# Altium schematic symbol library composants actifs.SchLib: 50 symbols
Pins are listed as number, name and electrical type; pins without a type are passive.

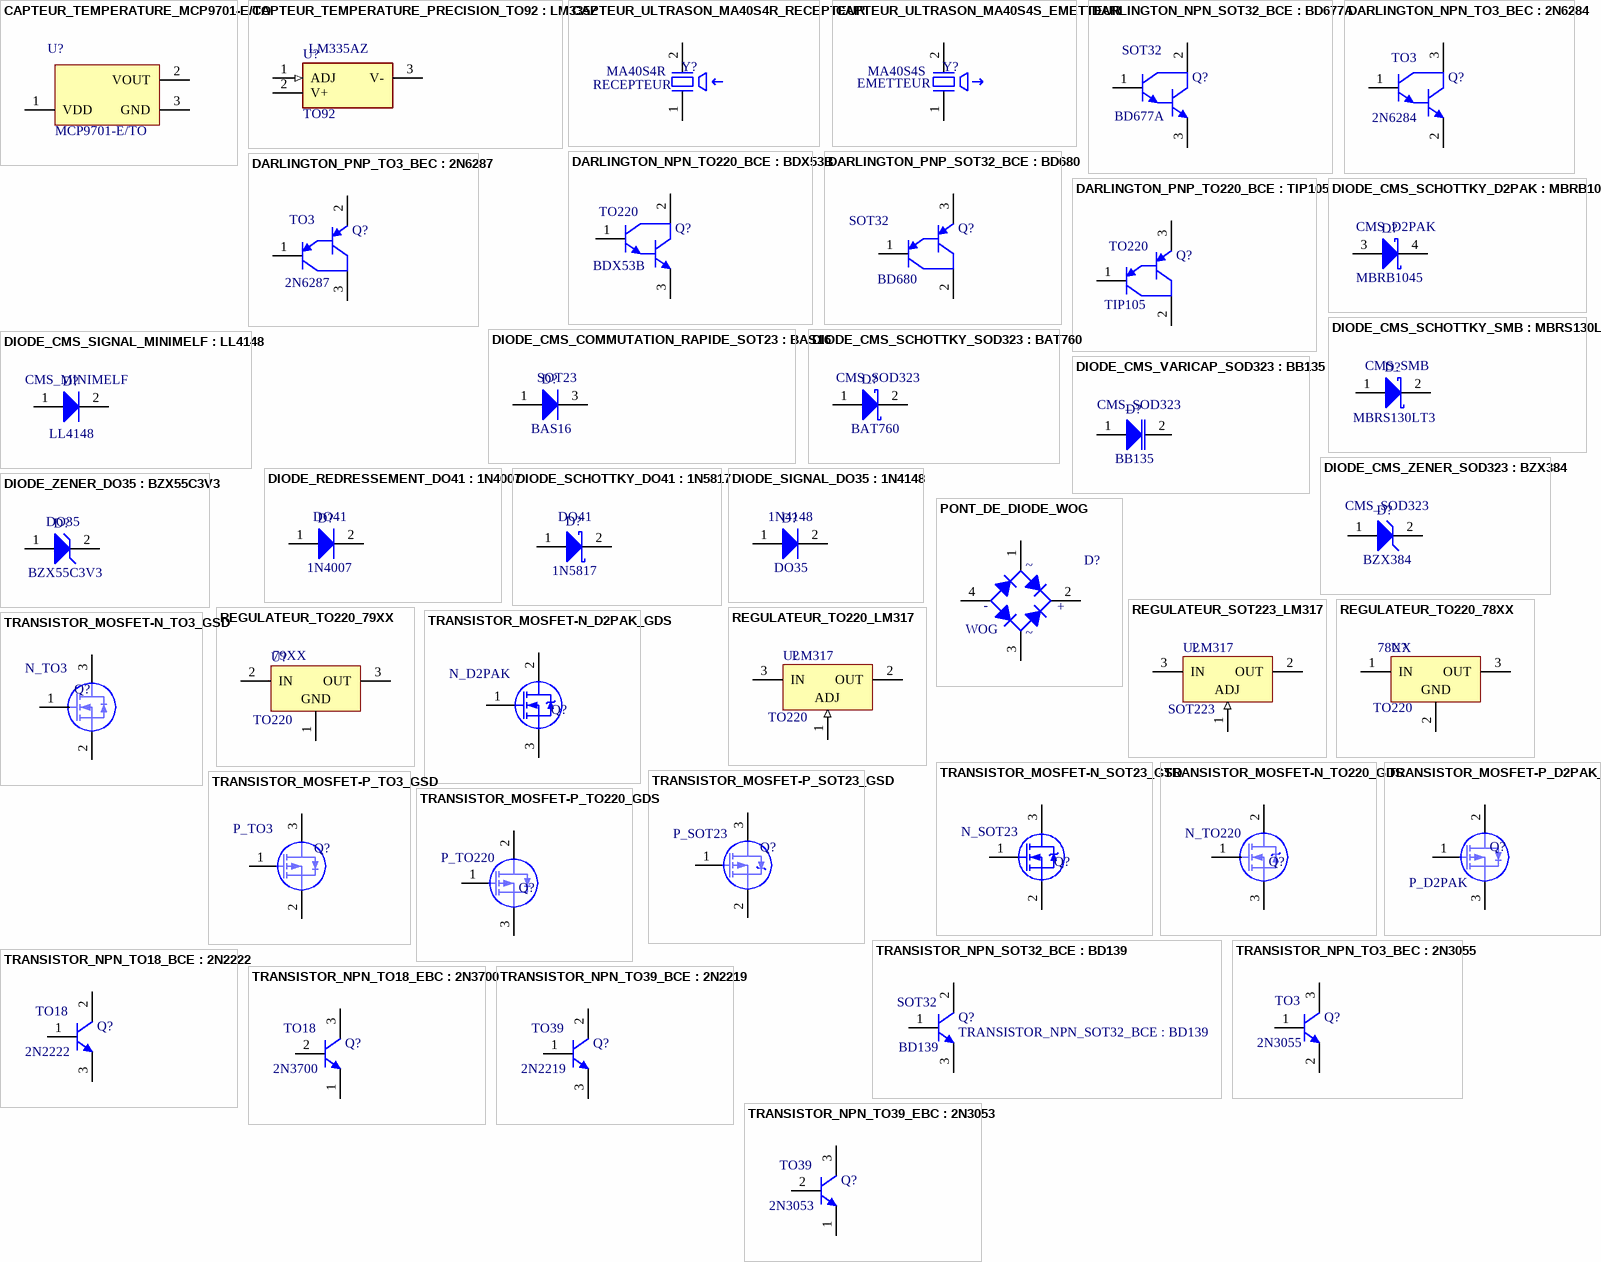
[diagram p0: symbols CAPTEUR_TEMPERATURE_MCP9701-E/TO to TRANSISTOR_NPN_TO39_EBC : 2N3053]

## CAPTEUR_TEMPERATURE_MCP9701-E/TO
designator U?  Type: MCP9701-E/TO
CAPTEUR DE TEMPERATURE ANALOGIQUE LINEAIRE - TO92
footprint COMPOSANT_TO92 (BOITIER TO92 ; 3 BROCHES EN LIGNE; DIAMETRE CORPS : 4.5mm ; BROCHES : 0.51mm x 0.48mm)
pins: 1 VDD (power), 2 VOUT (power), 3 GND (power)

## CAPTEUR_TEMPERATURE_PRECISION_TO92 : LM335Z
designator U?  Type: LM335AZ  Package: TO92  (hidden comment: CAPTEUR_TEMPERATURE_PRECISION_TO92 : LM335Z)
CAPTEUR DE TEMPERATURE DE PRECISION - TO92
footprint COMPOSANT_TO92 (BOITIER TO92 ; 3 BROCHES EN LIGNE; DIAMETRE CORPS : 4.5mm ; BROCHES : 0.51mm x 0.48mm)
pins: 1 ADJ (in), 2 V+ (power), 3 V- (power)

## CAPTEUR_ULTRASON_MA40S4R_RECEPTEUR
designator Y?, comment value RECEPTEUR  Type: MA40S4R  (hidden comment: CAPTEUR_ULTRASON_MA40S4R_REEPTEUR)
CAPTEUR ULTRASON MA40S4R_RECEPTEUR
simulation model XTAL (Spice Subcircuit)
footprint CAPTEUR_ULTRASON_MA40S4 (CAPTEUR ; DIAMETRE : 10mm ; ESPACEMENTS BROCHES : 5mm)
pins: 1 OSC1, 2 OSC2

## CAPTEUR_ULTRASON_MA40S4S_EMETTEUR
designator Y?  value EMETTEUR  Type: MA40S4S  (hidden comment: CAPTEUR_ULTRASON_MA40S4S_EMETTEUR)
CAPTEUR ULTRASON MA40S4S_EMETTEUR
simulation model XTAL (Spice Subcircuit)
footprint CAPTEUR_ULTRASON_MA40S4 (CAPTEUR ; DIAMETRE : 10mm ; ESPACEMENTS BROCHES : 5mm)
pins: 1 OSC1, 2 OSC2

## DARLINGTON_NPN_SOT32_BCE : BD677A
designator Q?  Package: SOT32  Name: BD677A  (hidden comment: DARLINGTON_NPN_SOT32_BCE : BD677A)
DARLINGTON NPN SOT32_BCE : BD677A
simulation model NPN1 (Spice Subcircuit)
signal-integrity model NPN
footprint TRANSISTOR_BIPOL_SOT32_BCE (BOITIER SOT32 ; DIMENSIONS : 10.7mm x 7.6mm x 2.6mm ; ESPACEMENT BROCHES : 2.2mm)
pins: 1 B, 2 C, 3 E

## DARLINGTON_NPN_TO3_BEC : 2N6284
designator Q?  Package: TO3  Type: 2N6284  (hidden comment: DARLINGTON_NPN_TO3_BEC : 2N6284)
DARLINGTON NPN TO3_BEC : 2N6284
simulation model NPN1 (Spice Subcircuit)
signal-integrity model NPN
footprint TRANSISTOR_BIPOL_TO3_BEC (TRANSISTOR TO3 ; DIMENSIONS : 26.7mm x 38.3mm ; ESPACEMENT BROCHES : 10.92mm)
pins: 1 B, 2 E, 3 C

## DARLINGTON_NPN_TO220_BCE : BDX53B
designator Q?  Package: TO220  Type: BDX53B  (hidden comment: DARLINGTON_NPN_TO220_BCE : BDX53B)
DARLINGTON NPN TO220_BCE : BDX53B
simulation model NPN1 (Spice Subcircuit)
signal-integrity model NPN
footprint TRANSISTOR_BIPOL_TO220_BCE (BOITIER TO220 ; DIMENSIONS : 11.2mm x 4.7mm ; ESPACEMENT BROCHES : 2.54 mm)
pins: 1 B, 2 C, 3 E

## DARLINGTON_PNP_SOT32_BCE : BD680
designator Q?  Package: SOT32  Type: BD680  (hidden comment: DARLINGTON_PNP_SOT32_BCE : BD680)
DARLINGTON PNP SOT32_BCE : BD680
simulation model PNP1 (Spice Subcircuit)
signal-integrity model PNP
footprint TRANSISTOR_BIPOL_SOT32_BCE (BOITIER SOT32 ; DIMENSIONS : 10.7mm x 7.6mm x 2.6mm ; ESPACEMENT BROCHES : 2.2mm)
pins: 1 B, 2 C, 3 E

## DARLINGTON_PNP_TO3_BEC : 2N6287
designator Q?  Package: TO3  Type: 2N6287  (hidden comment: DARLINGTON_PNP_TO3_BEC : 2N6287)
DARLINGTON PNP TO3_BEC : 2N6287
simulation model PNP1 (Spice Subcircuit)
signal-integrity model PNP
footprint TRANSISTOR_BIPOL_TO3_BEC (TRANSISTOR TO3 ; DIMENSIONS : 26.7mm x 38.3mm ; ESPACEMENT BROCHES : 10.92mm)
pins: 1 B, 2 E, 3 C

## DARLINGTON_PNP_TO220_BCE : TIP105
designator Q?  Package: TO220  Type: TIP105  (hidden comment: DARLINGTON_PNP_TO220_BCE : TIP105)
DARLINGTON PNP TO220_BCE : TIP105
simulation model PNP1 (Spice Subcircuit)
signal-integrity model PNP
footprint TRANSISTOR_BIPOL_TO220_BCE (BOITIER TO220 ; DIMENSIONS : 11.2mm x 4.7mm ; ESPACEMENT BROCHES : 2.54 mm)
pins: 1 B, 2 C, 3 E

## DIODE_CMS_COMMUTATION_RAPIDE_SOT23 : BAS16
designator D?  Type: BAS16  Package: SOT23  (hidden comment: DIODE_CMS_COMMUTATION_RAPIDE_SOT23 : BAS16)
DIODE CMS COMMUTATION RADIDE SOT23 : BAS16
simulation model DIODE (Diode)
signal-integrity model Diode
footprint DIODE_SOT23 (SOT23 ; DIMENSIONS : 3.0mm x 2.5 mm)
pins: 1, 3

## DIODE_CMS_SCHOTTKY_D2PAK : MBRB1045
designator D?  Package: CMS_D2PAK  Type: MBRB1045  (hidden comment: DIODE_CMS_SCHOTTKY_D2PAK : MBRB1045)
DIODE CMS SCHOTTKY D2PAK : MBRB1045
simulation model SKYDIODE (Diode)
signal-integrity model D Schottky
footprint DIODE_CMS_D2PAK (DIODE CMS D2PAK ; DIMENSIONS : 15.5mm x 10.5 mm)
pins: 3, 4

## DIODE_CMS_SCHOTTKY_SMB : MBRS130LT3
designator D?  Package: CMS_SMB  Type: MBRS130LT3  (hidden comment: DIODE_CMS_SCHOTTKY_SMB : MBRS130LT3)
DIODE CMS SCHOTTKY SMB : MBRS130LT3
simulation model SKYDIODE (Diode)
signal-integrity model D Schottky
footprint DIODE_CMS_SMB (DIODE CMS SMB ; DIMENSIONS : 5.4mm x 3.6mm ; ESPACEMENT BROCHES : 4.15mm)
pins: 1, 2

## DIODE_CMS_SCHOTTKY_SOD323 : BAT760
designator D?  Package: CMS_SOD323  Type: BAT760  (hidden comment: DIODE_CMS_SCHOTTKY_SOD323 : BAT760)
DIODE CMS SCHOTTKY SOD-323 : BAT760
simulation model SKYDIODE (Diode)
signal-integrity model D Schottky
footprint DIODE_CMS_SOD323 (DIODE CMS SOD323 ; DIMENSIONS : 1.7mm x 1.3mm)
pins: 1, 2

## DIODE_CMS_SIGNAL_MINIMELF : LL4148
designator D?  Package: CMS_MINIMELF  Type: LL4148  (hidden comment: DIODE_CMS_SIGNAL_MINIMELF : LL4148)
DIODE CMS DE SIGNAL MINIMELF : LL4148
simulation model DIODE (Diode)
signal-integrity model Diode
footprint DIODE_CMS_MINIMELF (DIODE CMS MINIMELF; DIMENSIONS : 3.5mm x 1.45mm)
pins: 1, 2

## DIODE_CMS_VARICAP_SOD323 : BB135
designator D?  Package: CMS_SOD323  Type: BB135  (hidden comment: DIODE_CMS_VARICAP_SOD323 : BB135)
DIODE CMS VARICAP SOD323 : BB135
simulation model BBY31 (Diode)
signal-integrity model D Varactor
footprint DIODE_CMS_SOD323 (DIODE CMS SOD323 ; DIMENSIONS : 1.7mm x 1.3mm)
pins: 1, 2

## DIODE_CMS_ZENER_SOD323 : BZX384
designator D?  Package: CMS_SOD323  Type: BZX384  (hidden comment: DIODE_CMS_ZENER_SOD323 : BZX384)
simulation model ZENER (Diode)
signal-integrity model D Zener
footprint DIODE_CMS_SOD323 (DIODE CMS SOD323 ; DIMENSIONS : 1.7mm x 1.3mm)
pins: 1, 2

## DIODE_REDRESSEMENT_DO41 : 1N4007
designator D?  Type: 1N4007  Package: DO41  (hidden comment: DIODE_REDRESSEMENT_DO41 : 1N4007)
DIODE DE REDRESSEMENT DO41 : 1N4007
simulation model DIODE (Diode)
signal-integrity model Diode
footprint DIODE_DO41 (DIODE DO41 ; DIMENSIONS : 5.2mm x 2.7mm ; PERCAGE : 0.8mm)
pins: 1, 2

## DIODE_SCHOTTKY_DO41 : 1N5817
designator D?  Type: 1N5817  Package: DO41  (hidden comment: DIODE_SCHOTTKY_DO41 : 1N5817)
DIODE SCHOTTKY DO41 : 1N5817
simulation model SKYDIODE (Diode)
signal-integrity model D Schottky
footprint DIODE_DO41 (DIODE DO41 ; DIMENSIONS : 5.2mm x 2.7mm ; PERCAGE : 0.8mm)
pins: 1, 2

## DIODE_SIGNAL_DO35 : 1N4148
designator D?  Type: 1N4148  Package: DO35  (hidden comment: DIODE_SIGNAL_DO35 : 1N4148)
DIODE SIGNAL DO35 : 1N4148
simulation model DIODE (Diode)
signal-integrity model Diode
footprint DIODE_DO35 (DIODE DO35 ; DIMENSIONS : 3.8mm x 1.9mm ; PERCAGE : 0.6mm)
pins: 1, 2

## DIODE_ZENER_DO35 : BZX55C3V3
designator D?  Package: DO35  Type: BZX55C3V3  (hidden comment: DIODE_ZENER_DO35 : BZX55C3V3)
DIODE ZENER DO35 : BZX55C3V3
simulation model ZENER (Diode)
signal-integrity model D Zener
footprint DIODE_DO35 (DIODE DO35 ; DIMENSIONS : 3.8mm x 1.9mm ; PERCAGE : 0.6mm)
pins: 1, 2

## PONT_DE_DIODE_WOG
designator D?  Type: WOG  (hidden comment: PONT_DE_DIODE_WOG)
PONT DE DIODE WOG
simulation model BRIDGE (Spice Subcircuit)
footprint PONT_DE_DIODE_WOG (PONT DE DIODE WOG; DIAMETRE : 8.3mm ; ESPACEMENT BROCHES : 5.08mm)
pins: 1, 2, 3, 4
text: ~; -; +

## REGULATEUR_SOT223_LM317
designator U?  Type: LM317  Package: SOT223  (hidden comment: REGULATEUR_SOT223_LM317)
REGULATEUR  DE TENSION DE SORTIE AJUSTABLE BOITIER SOT223
footprint COMPOSANT_SOT223 (SOT-223 ; 4 BROCHES; DIMENSIONS : 6.7mm x 7.3mm)
pins: 1 ADJ (in), 2 OUT (power), 3 IN (power)

## REGULATEUR_TO220_78XX
designator U?  Type: 78XX  Package: TO220  (hidden comment: REGULATEUR_TO220_78XX)
REGULATEUR DE TENSION POSITIVE 78XX BOITIER TO220
footprint REGULATEUR_TO220_78XX (BOITIER TO220 ; DIMENSIONS : 11.2mm x 4.7mm ; ESPACEMENT BROCHES : 2.54 mm)
pins: 1 IN (power), 2 GND (power), 3 OUT (power)

## REGULATEUR_TO220_79XX
designator U?  Package: TO220  Type: 79XX  (hidden comment: REGULATEUR_TO220_79XX)
REGULATEUR DE TENSION POSITIVE 79XX BOITIER TO220
footprint REGULATEUR_TO220_79XX (BOITIER TO220 ; DIMENSIONS : 11.2mm x 4.7mm ; ESPACEMENT BROCHES : 2.54 mm)
pins: 1 GND (power), 2 IN (power), 3 OUT (power)

## REGULATEUR_TO220_LM317
designator U?  Type: LM317  Package: TO220  (hidden comment: REGULATEUR_TO220_LM317)
REGULATEUR  DE TENSION DE SORTIE AJUSTABLE BOITIER TO220
footprint REGULATEUR_TO220_LM317 (BOITIER TO220 ; DIMENSIONS : 11.2mm x 4.7mm ; ESPACEMENT BROCHES : 2.54 mm)
pins: 1 ADJ (in), 2 OUT (power), 3 IN (power)

## TRANSISTOR_MOSFET-N_D2PAK_GDS
designator Q?  Package: N_D2PAK  (hidden comment: TRANSISTOR_MOSFET-N_D2PAK_GDS)
TRANSISTOR MOSFET CANAL N BOITIER D2PAK_GDS
footprint TRANSISTOR_MOSFET-N_D2PAK_GDS (TRANSISTOR MOSFET CANAL N BOITIER D2PAK ; DIMENSIONS : 15.5mm x 10.5 mm)
pins: 1 G, 2 D, 3 S

## TRANSISTOR_MOSFET-N_SOT23_GSD
designator Q?  Package: N_SOT23  (hidden comment: TRANSISTOR_MOSFET-N_SOT23_GSD)
TRANSISTOR MOSFET CANAL N BOITIER SOT23_GSD
footprint TRANSISTOR_MOSFET-N_SOT23_GSD (SOT23 ; DIMENSIONS : 3.0mm x 2.5 mm)
pins: 1 G, 2 S, 3 D

## TRANSISTOR_MOSFET-N_TO3_GSD
designator Q?  Package: N_TO3  (hidden comment: TRANSISTOR_MOSFET-N_TO3_GSD)
TRANSISTOR MOSFET CANAL N BOITIER TO3_GSD
simulation model NMOS (MOSFET-N)
footprint TRANSISTOR_MOSFET-N_TO3_GSD (TRANSISTOR TO3 ; DIMENSIONS : 26.7mm x 38.3mm ; ESPACEMENT BROCHES : 10.92mm)
pins: 1 G, 2 S, 3 D

## TRANSISTOR_MOSFET-N_TO220_GDS
designator Q?  Package: N_TO220  (hidden comment: TRANSISTOR_MOSFET-N_TO220_GDS)
TRANSISTOR MOSFET CANAL N BOITIER TO220_GDS
simulation model NMOS (MOSFET-N)
footprint TRANSISTOR_MOSFET-N_TO220_GDS (BOITIER TO220 ; DIMENSIONS : 11.2mm x 4.7mm ; ESPACEMENT BROCHES : 2.54 mm)
pins: 1 G, 2 D, 3 S

## TRANSISTOR_MOSFET-P_D2PAK_GDS
designator Q?  Package: P_D2PAK  (hidden comment: TRANSISTOR_MOSFET-P_D2PAK_GDS)
TRANSISTOR MOSFET CANAL P BOITIER D2PAK_GDS
footprint TRANSISTOR_MOSFET-P_D2PAK_GDS (TRANSISTOR MOSFET CANAL P BOITIER D2PAK ; DIMENSIONS : 15.5mm x 10.5 mm)
pins: 1 G, 2 D, 3 S

## TRANSISTOR_MOSFET-P_SOT23_GSD
designator Q?  Package: P_SOT23  (hidden comment: TRANSISTOR_MOSFET-P_SOT23_GSD)
TRANSISTOR MOSFET CANAL P BOITIER SOT23_GSD
footprint TRANSISTOR_MOSFET-P_SOT23_GSD (SOT23 ; DIMENSIONS : 3.0mm x 2.5 mm)
pins: 1 G, 2 S, 3 D

## TRANSISTOR_MOSFET-P_TO3_GSD
designator Q?  Package: P_TO3  (hidden comment: TRANSISTOR_MOSFET-P_TO3_GSD)
TRANSISTOR MOSFET CANAL P BOITIER TO3_GSD
footprint TRANSISTOR_MOSFET-P_TO3_GSD (TRANSISTOR TO3 ; DIMENSIONS : 26.7mm x 38.3mm ; ESPACEMENT BROCHES : 10.92mm)
pins: 1 G, 2 S, 3 D

## TRANSISTOR_MOSFET-P_TO220_GDS
designator Q?  Package: P_TO220  (hidden comment: TRANSISTOR_MOSFET-P_TO220_GDS)
TRANSISTOR MOSFET CANAL P BOITIER TO220_GDS
footprint TRANSISTOR_MOSFET-P_TO220_GDS (BOITIER TO220 ; DIMENSIONS : 11.2mm x 4.7mm ; ESPACEMENT BROCHES : 2.54 mm)
pins: 1 G, 2 D, 3 S

## TRANSISTOR_NPN_SOT32_BCE : BD139
designator Q?  Package: SOT32  Type: BD139
TRANSISTOR NPN SOT32_BCE : BD139
simulation model NPN
signal-integrity model NPN
footprint TRANSISTOR_BIPOL_SOT32_BCE (BOITIER SOT32 ; DIMENSIONS : 10.7mm x 7.6mm x 2.6mm ; ESPACEMENT BROCHES : 2.2mm)
pins: 1 B, 2 C, 3 E

## TRANSISTOR_NPN_TO3_BEC : 2N3055
designator Q?  Package: TO3  Type: 2N3055  (hidden comment: TRANSISTOR_NPN_TO3_BEC : 2N3055)
TRANSISTOR BIPOLAIRE NPN BOITIER TO3_BEC : 2N3055
simulation model NPN
signal-integrity model NPN
footprint TRANSISTOR_BIPOL_TO3_BEC (TRANSISTOR TO3 ; DIMENSIONS : 26.7mm x 38.3mm ; ESPACEMENT BROCHES : 10.92mm)
pins: 1 B, 2 E, 3 C

## TRANSISTOR_NPN_TO18_BCE : 2N2222
designator Q?  Package: TO18  Type: 2N2222  (hidden comment: TRANSISTOR_NPN_TO18_BCE : 2N2222)
TRANSISTOR BIPOLAIRE NPN TO18_BCE : 2N2222
simulation model NPN
signal-integrity model NPN
footprint TRANSISTOR_BIPOL_TO18_BCE (BOITIER TO18 ; DIAMETRE : 6mm ; ESPACEMENT BROCHES 1-3 : 2.54mm ; PERCAGE : 0.6mm)
pins: 1 B, 2 C, 3 E

## TRANSISTOR_NPN_TO18_EBC : 2N3700
designator Q?  Package: TO18  Type: 2N3700  (hidden comment: TRANSISTOR_NPN_TO18_EBC : 2N3700)
TRANSISTOR BIPOLAIRE NPN TO18_EBC : 2N3700
simulation model NPN
signal-integrity model NPN
footprint TRANSISTOR_BIPOL_TO18_EBC (BOITIER TO18 ; DIAMETRE : 6mm ; ESPACEMENT BROCHES 1-3 : 2.54mm ; PERCAGE : 0.6mm)
pins: 1 E, 2 B, 3 C

## TRANSISTOR_NPN_TO39_BCE : 2N2219
designator Q?  Package: TO39  Type: 2N2219  (hidden comment: TRANSISTOR_NPN_TO39_BCE : 2N2219)
TRANSISTOR BIPOLAIRE NPN TO39_BCE : 2N2219
simulation model NPN
signal-integrity model NPN
footprint TRANSISTOR_BIPOL_TO39_BCE (TRANSISTOR TO39; 3 BROCHES; DIAMETRE : 9.3mm; PERCAGE : 0.6mm)
pins: 1 B, 2 C, 3 E

## TRANSISTOR_NPN_TO39_EBC : 2N3053
designator Q?  Package: TO39  Type: 2N3053  (hidden comment: TRANSISTOR_NPN_TO39_EBC : 2N3053)
TRANSISTOR BIPOLAIRE NPN TO39_EBC : 2N3053
simulation model NPN
signal-integrity model NPN
footprint TRANSISTOR_BIPOL_TO39_EBC (TRANSISTOR TO39; 3 BROCHES; DIAMETRE : 9.3mm; PERCAGE : 0.6mm)
pins: 1 E, 2 B, 3 C

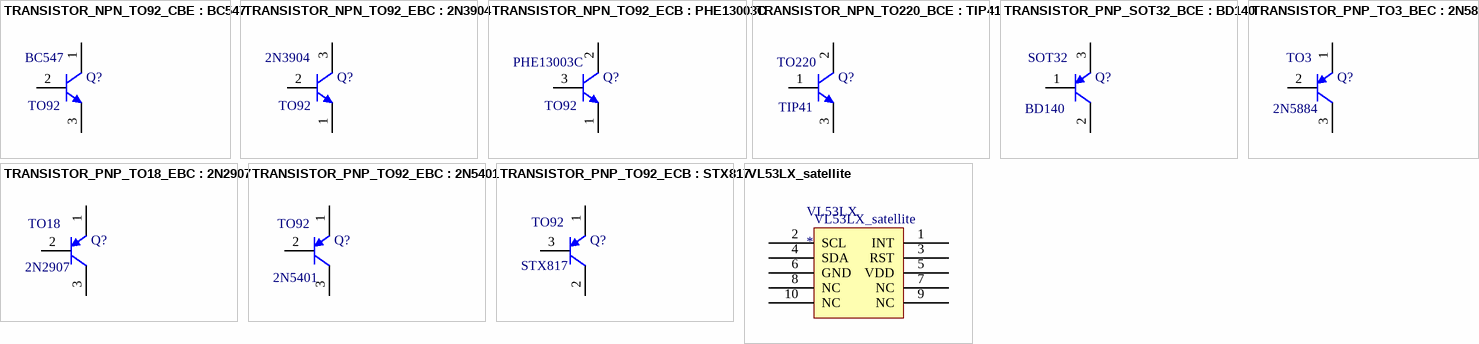
[diagram p1: symbols TRANSISTOR_NPN_TO92_CBE : BC547 to VL53LX_satellite]

## TRANSISTOR_NPN_TO92_CBE : BC547
designator Q?  Package: TO92  Type: BC547  (hidden comment: TRANSISTOR_NPN_TO92_CBE : BC547)
TRANSISTOR NPN TO92_CBE : BC547
simulation model NPN
signal-integrity model NPN
footprint TRANSISTOR_BIPOL_TO92_CBE (TRANSISTOR TO92 ; 3 BROCHES EN LIGNE; DIAMETRE CORPS : 4.5mm ; BROCHES : 0.51mm x 0.48mm)
pins: 1 C, 2 B, 3 E

## TRANSISTOR_NPN_TO92_EBC : 2N3904
designator Q?  Package: TO92  Type: 2N3904  (hidden comment: TRANSISTOR_NPN_TO92_EBC : 2N3904)
TRANSISTOR NPN TO92_EBC : 2N3904
simulation model NPN
signal-integrity model NPN
footprint TRANSISTOR_BIPOL_TO92_EBC (TRANSISTOR TO92 ; 3 BROCHES EN LIGNE; DIAMETRE CORPS : 4.5mm ; BROCHES : 0.51mm x 0.48mm)
pins: 1 E, 2 B, 3 C

## TRANSISTOR_NPN_TO92_ECB : PHE13003C
designator Q?  Package: TO92  Type: PHE13003C  (hidden comment: TRANSISTOR_NPN_TO92_ECB : PHE13003C)
TRANSISTOR NPN TO92_ECB : PHE13003C
simulation model NPN
signal-integrity model NPN
footprint TRANSISTOR_BIPOL_TO92_ECB (TRANSISTOR TO92 ; 3 BROCHES EN LIGNE; DIAMETRE CORPS : 4.5mm ; BROCHES : 0.51mm x 0.48mm)
pins: 1 E, 2 C, 3 B

## TRANSISTOR_NPN_TO220_BCE : TIP41
designator Q?  Package: TO220  Type: TIP41  (hidden comment: TRANSISTOR_NPN_TO220_BCE : TIP41)
TRANSISTOR NPN TO220_BCE : TIP41
simulation model NPN
signal-integrity model NPN
footprint TRANSISTOR_BIPOL_TO220_BCE (BOITIER TO220 ; DIMENSIONS : 11.2mm x 4.7mm ; ESPACEMENT BROCHES : 2.54 mm)
pins: 1 B, 2 C, 3 E

## TRANSISTOR_PNP_SOT32_BCE : BD140
designator Q?  Package: SOT32  Type: BD140  (hidden comment: TRANSISTOR_PNP_SOT32_BCE : BD140)
TRANSISTOR PNP SOT32_BCE : BD140
simulation model PNP
signal-integrity model PNP
footprint TRANSISTOR_BIPOL_SOT32_BCE (BOITIER SOT32 ; DIMENSIONS : 10.7mm x 7.6mm x 2.6mm ; ESPACEMENT BROCHES : 2.2mm)
pins: 1 B, 2 C, 3 E

## TRANSISTOR_PNP_TO3_BEC : 2N5884
designator Q?  Package: TO3  Type: 2N5884  (hidden comment: TRANSISTOR_PNP_TO3_BEC : 2N5884)
TRANSISTOR PNP TO3_BEC : 2N5884
simulation model PNP
signal-integrity model PNP
footprint TRANSISTOR_BIPOL_TO3_BEC (TRANSISTOR TO3 ; DIMENSIONS : 26.7mm x 38.3mm ; ESPACEMENT BROCHES : 10.92mm)
pins: 1 E, 2 B, 3 C

## TRANSISTOR_PNP_TO18_EBC : 2N2907
designator Q?  Package: TO18  Type: 2N2907  (hidden comment: TRANSISTOR_PNP_TO18_EBC : 2N2907)
TRANSISTOR PNP TO18_EBC : 2N2907
simulation model PNP
signal-integrity model PNP
footprint TRANSISTOR_BIPOL_TO18_EBC (BOITIER TO18 ; DIAMETRE : 6mm ; ESPACEMENT BROCHES 1-3 : 2.54mm ; PERCAGE : 0.6mm)
pins: 1 E, 2 B, 3 C

## TRANSISTOR_PNP_TO92_EBC : 2N5401
designator Q?  Package: TO92  Type: 2N5401  (hidden comment: TRANSISTOR_PNP_TO92_EBC : 2N5401)
TRANSISTOR PNP TO92_EBC : 2N5401
simulation model PNP
signal-integrity model PNP
footprint TRANSISTOR_BIPOL_TO92_EBC (TRANSISTOR TO92 ; 3 BROCHES EN LIGNE; DIAMETRE CORPS : 4.5mm ; BROCHES : 0.51mm x 0.48mm)
pins: 1 E, 2 B, 3 C

## TRANSISTOR_PNP_TO92_ECB : STX817
designator Q?  Package: TO92  Type: STX817  (hidden comment: TRANSISTOR_PNP_TO92_ECB : STX817)
TRANSISTOR PNP TO92_ECB : STX817
simulation model PNP
signal-integrity model PNP
footprint TRANSISTOR_BIPOL_TO92_ECB (TRANSISTOR TO92 ; 3 BROCHES EN LIGNE; DIAMETRE CORPS : 4.5mm ; BROCHES : 0.51mm x 0.48mm)
pins: 1 E, 2 C, 3 B

## VL53LX_satellite
designator VL53LX
footprint VL53LX - Satellite
footprint VL53LX - Satellite - HDR2x3
pins: 1 INT, 2 SCL, 3 RST, 4 SDA, 5 VDD, 6 GND, 7 NC, 8 NC, 9 NC, 10 NC